# EAGLE library part PUSB3FR6 (library esd)
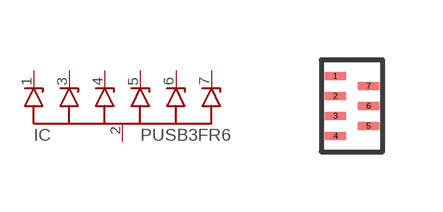
[diagram p0: symbol with the pads of DFN2111-7; footprint DFN2111-7]

Designator prefix IC

## PUSB3FR6  [DFN2111-7]
1  1
2  2  pwr
3  3
4  4
5  5
6  6
7  7

## Footprint DFN2111-7 (pad centres in mm)
smd 0.53 x 0.2: 1 -0.415,0.75; 2 -0.415,0.25; 3 -0.415,-0.25; 4 -0.415,-0.75; 5 0.415,-0.5; 6 0.415,0; 7 0.415,0.5